# EAGLE library part 8_SURFACE_TO-DIP (library PocketCube)
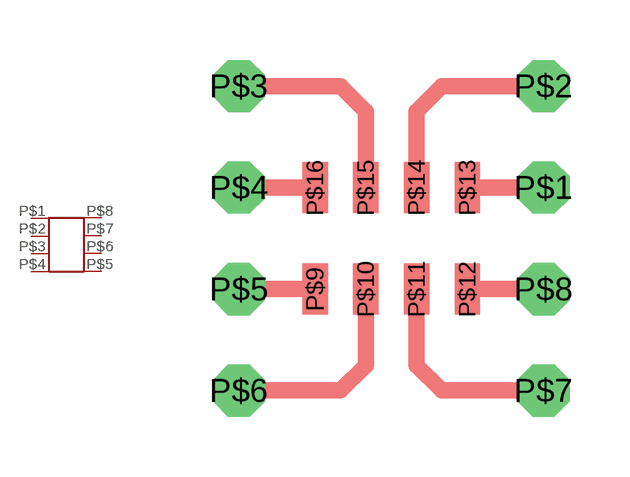
[diagram p14: symbol with the pads of 8SURFACE_T_DIP; footprint 8SURFACE_T_DIP]

Designator prefix -

## 8_SURFACE_TO-DIP  [8SURFACE_T_DIP]
P$1  1
P$2  2
P$3  3
P$4  4
P$5  5
P$6  6
P$7  7
P$8  8

## Footprint 8SURFACE_T_DIP (pad centres in mm)
drill 0.8 octagon: P$1 7.62,5.08; P$2 7.62,7.62; P$3 0,7.62; P$4 0,5.08; P$5 0,2.54; P$6 0,0; P$7 7.62,0; P$8 7.62,2.54
smd 0.635 x 1.27: P$9 1.905,2.54; P$10 3.175,2.54; P$11 4.445,2.54; P$12 5.715,2.54; P$13 5.715,5.08; P$14 4.445,5.08; P$15 3.175,5.08; P$16 1.905,5.08